# Altium schematic symbol library TLV320AIC3204IRHBR.SchLib: 1 symbol
Pins are listed as number, name and electrical type; pins without a type are passive.

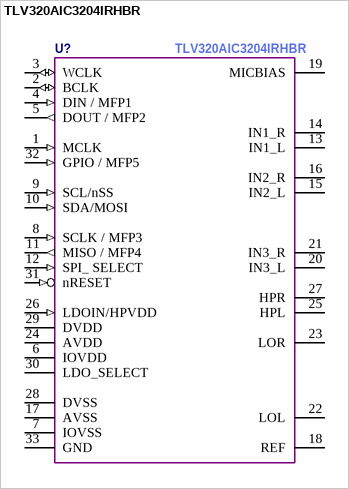
[diagram p0: symbol TLV320AIC3204IRHBR]

## TLV320AIC3204IRHBR
designator U?  Manufacturer Part Number: TLV320AIC3204IRHBR  (hidden comment: *)
pins: 1 MCLK (in), 2 BCLK (io), 3 WCLK (io), 4 DIN / MFP1 (in), 5 DOUT / MFP2 (out), 6 IOVDD (power), 7 IOVSS (power) "GND", 8 SCLK / MFP3 (in), 9 SCL/nSS (in), 10 SDA/MOSI (in), 11 MISO / MFP4 (out), 12 SPI_ SELECT (in), 13 IN1_L, 14 IN1_R, 15 IN2_L, 16 IN2_R, 17 AVSS (power) "GND", 18 REF, 19 MICBIAS, 20 IN3_L, 21 IN3_R, 22 LOL, 23 LOR, 24 AVDD (power), 25 HPL, 26 LDOIN/HPVDD (in), 27 HPR, 28 DVSS (power) "GND", 29 DVDD (power), 30 LDO_SELECT, 31 nRESET (in), 32 GPIO / MFP5 (in), 33 GND (power)